# Altium schematic symbol library Optoisolators.SchLib: 1 symbol
Pins are listed as number, name and electrical type; pins without a type are passive.

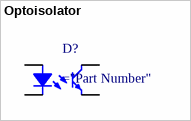
[diagram p0: symbol Optoisolator]

## Optoisolator
designator D?
pins: 1, 2, 3, 4